# Altium footprint library HRTAltiumPcbLib.PcbLib: 1 footprints
Each footprint in its own frame and in the unit in brackets; x right, y up, seen from the top. Pads: shape width x height; smd on the part's side, far side on the other; paste and mask are expansions set on the pad; w line width, h text height; cw(c..) or ccw(c..) is an arc to the next point about the centre after c.
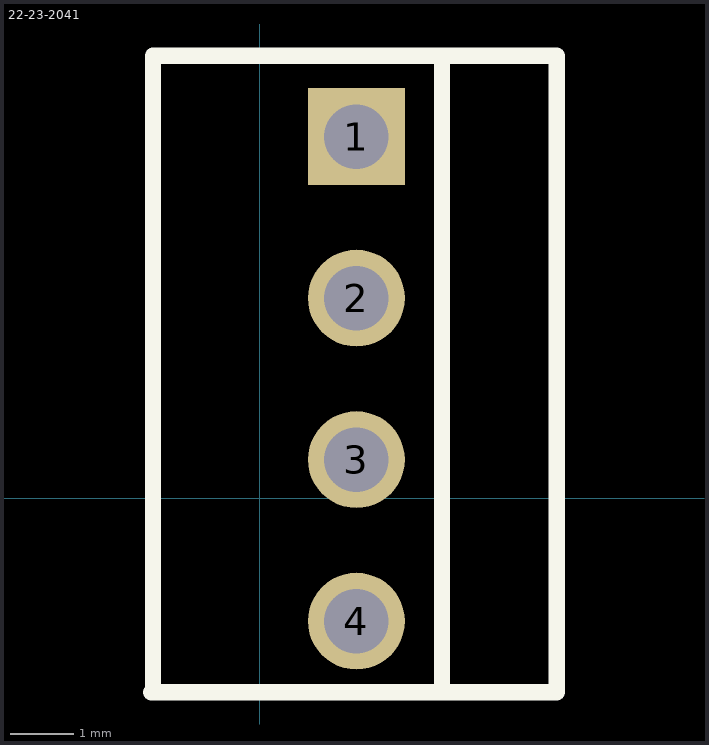
[diagram p0: the footprint, top view; thin cyan lines are the x and y axes]

## 22-23-2041 [mil] "CONN HEADER 4POS .100 VERT TIN"
pads (4):
  rect 60x60 / inner round 60 / far side round 60 hole 40: 1(60,224)
  round 60 hole 40: 2(60,124) 3(60,24)
  round 60 / inner rect 60x60 / far side rect 60x60 hole 40: 4(60,-76)
Top Overlay:
  lines w10: -67,-120 -66,-119 -66,274 184,274 184,-120 -66,-120 ; 113,-120 113,274
3D body "022232041.stp": height 422.5, standoff -137.5, extent -66,-120 184,274